# Altium footprint library Mezeq_Connectors.PcbLib: 38 footprints (part 3 of 3)
Each footprint in its own frame and in the unit in brackets; x right, y up, seen from the top. Pads: shape width x height; smd on the part's side, far side on the other; paste and mask are expansions set on the pad; w line width, h text height; cw(c..) or ccw(c..) is an arc to the next point about the centre after c.
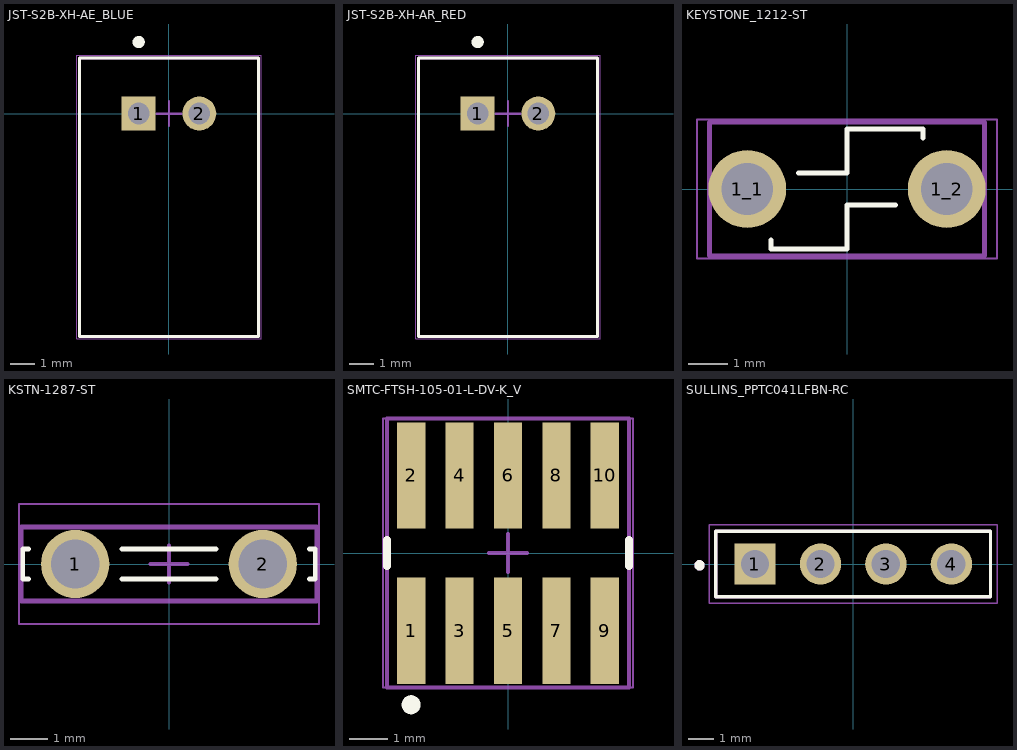
[diagram p2: the footprints below, top view; thin cyan lines are the x and y axes]

## JST-S2B-XH-AE_BLUE [mm] "Header, 2-Leads, Body 7.4x11.5mm, Pitch 2.5mm, BLUE"
height 6.1
pads (2):
  rect 1.4x1.4 hole 0.9 mask+0.05: 1(-1.25,0)
  round 1.4 hole 0.9 mask+0.05: 2(1.25,0)
Top Overlay:
  circle w0.25: c-1.25,2.95 r0.125
  lines w0.127: -3.697,2.3 -3.7,2.3 ; -3.7,2.3 3.7,2.3 3.7,-9.2 -3.7,-9.2 -3.7,2.3
Top Assembly:
  circle w0.25: c-1.25,0 r0.35
  lines w0.127: -3.7,-9.2 3.7,-9.2 3.7,2.3 -3.7,2.3 -3.7,-9.2
  text ".Designator" at -9.997,-4.666 h2
Top Courtyard:
  lines w0.05: -3.8,-9.3 3.8,-9.3 3.8,2.4 -3.8,2.4 -3.8,-9.3
  lines w0.1: -0.5,0 0.5,0 ; 0,-0.5 0,0.5
3D body "S2B-XH-A.STEP": height 6.11, standoff -3.39, extent -3.7,-9.2 3.7,2.3

## JST-S2B-XH-AR_RED [mm] "Header, 2-Leads, Body 7.4x11.5mm, Pitch 2.5mm, RED"
height 6.1
pads (2):
  rect 1.4x1.4 hole 0.9 mask+0.05: 1(-1.25,0)
  round 1.4 hole 0.9 mask+0.05: 2(1.25,0)
Top Overlay:
  circle w0.25: c-1.25,2.95 r0.125
  lines w0.127: -3.697,2.3 -3.7,2.3 ; -3.7,2.3 3.7,2.3 3.7,-9.2 -3.7,-9.2 -3.7,2.3
Top Assembly:
  circle w0.25: c-1.25,0 r0.35
  lines w0.127: -3.7,-9.2 3.7,-9.2 3.7,2.3 -3.7,2.3 -3.7,-9.2
  text ".Designator" at -9.997,-4.666 h2
Top Courtyard:
  lines w0.05: -3.8,-9.3 3.8,-9.3 3.8,2.4 -3.8,2.4 -3.8,-9.3
  lines w0.1: -0.5,0 0.5,0 ; 0,-0.5 0,0.5
3D body "S2B-XH-A.STEP": height 6.11, standoff -3.39, extent -3.7,-9.2 3.7,2.3

## KEYSTONE_1212-ST [mm]
height 12.95
pads (2):
  round 1.98 hole 1.32 mask+0.05: 1_1(-2.54,0) 1_2(2.54,0)
Top Overlay:
  lines w0.127: -1.937,-1.304 -1.937,-1.525 0,-1.525 0,-0.405 1.236,-0.405 ; -1.236,0.405 0,0.405 0,1.525 1.937,1.525 1.937,1.304
Top Assembly:
  lines w0.127: -3.5,-1.7 -3.5,1.7 3.5,1.7 3.5,-1.7 -3.5,-1.7
  text ".Designator" at -7.618,-0.508 h1.52
Top Courtyard:
  lines w0.05: -3.82,-1.775 -3.82,1.775 3.82,1.775 3.82,-1.775 -3.82,-1.775
3D body "1212-ST.STEP": height 11.92, standoff -1.07, extent -3.599,-1.518 3.596,1.545

## KSTN-1287-ST [mm] "FIT, 2-Leads, Pitch 5.08mm, Male"
height 10.21
pads (2):
  round 1.85 hole 1.32 mask+0.05: 1(-2.54,0) 2(2.54,0)
Top Overlay:
  lines w0.127: -3.801,-0.405 -3.96,-0.405 -3.96,0.405 -3.801,0.405 ; -1.279,-0.405 1.279,-0.405 ; -1.279,0.405 1.279,0.405 ; 3.801,-0.405 3.96,-0.405 3.96,0.405 3.801,0.405
Top Assembly:
  lines w0.127: -4,-1 -4,1 4,1 4,-1 -4,-1
  text ".Designator" at -4.998,-0.333 h1
Top Courtyard:
  lines w0.05: -4.06,-1.625 4.06,-1.625 4.06,1.625 -4.06,1.625 -4.06,-1.625
  lines w0.1: -0.5,0 0.5,0 ; 0,-0.5 0,0.5
3D body: height 10.21, standoff 2.29, extent -3.175,-0.405 3.175,0.405
3D body: height 2.29, standoff 0, extent -3.96,-0.405 3.96,0.405

## SMTC-FTSH-105-01-L-DV-K_V [mm] "CONN, 10-Leads, Body 6.35x3.43mm, Pitch 1.27mm"
height 6.25
pads (10):
  rect 0.74x2.79 smd: 1(-2.54,-2.035) 2(-2.54,2.035) 3(-1.27,-2.035) 4(-1.27,2.035) 5(0,-2.035) 6(0,2.035) 7(1.27,-2.035) 8(1.27,2.035) 9(2.54,-2.035) 10(2.54,2.035)
Top Overlay:
  circle w0.25: c-2.54,-3.98 r0.125
  lines w0.2: -3.175,-0.341 -3.175,0.341 ; 3.175,-0.341 3.175,0.341
Top Assembly:
  circle w0.127: c-2.54,-2.035 r0.156
  lines w0.1: -3.175,-3.53 -3.175,3.53 3.175,3.53 3.175,-3.53 -3.175,-3.53
  text ".Designator" at -4.998,-0.333 h1
Top Courtyard:
  lines w0.05: -3.275,-3.53 -3.275,3.53 3.275,3.53 3.275,-3.53 -3.275,-3.53
  lines w0.1: -0.5,0 0.5,0 ; 0,-0.5 0,0.5
3D body "FTSH-105-01-L-DV-K.stp": height 6.12, standoff 0, extent -3.175,-2.921 3.175,2.921

## SULLINS_PPTC041LFBN-RC [mm]
height 8.5
pads (4):
  rect 1.605x1.605 / inner round 1.605 / far side rect 1.605x1.605 hole 1.1: 1(-3.81,0)
  round 1.605 hole 1.1: 2(-1.27,0) 3(1.27,0) 4(3.81,0)
Top Overlay:
  circle w0.2: c-5.96,-0.05 r0.1
  lines w0.127: -5.33,-1.27 5.33,-1.27 5.33,1.27 -5.33,1.27 -5.33,-1.27
Top Assembly:
  circle w0.2: c-5.96,-0.05 r0.1
  lines w0.127: -5.33,-1.27 5.33,-1.27 5.33,1.27 -5.33,1.27 -5.33,-1.27
  text ".Designator" at -7.618,-0.508 h1.52
Top Courtyard:
  lines w0.05: -5.58,-1.52 5.58,-1.52 5.58,1.52 -5.58,1.52 -5.58,-1.52
3D body "step_temp.STEP": height 8.51, standoff -3.2, extent -5.334,-1.27 5.334,1.27